# EAGLE library part SI8602AC-B-IS (library toyotune)
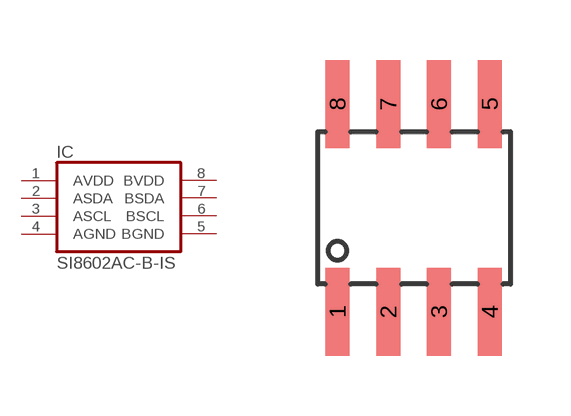
[diagram p35: symbol with the pads of SOIC8; footprint SOIC8]

Designator prefix IC

## SI8602AC-B-IS  [SOIC8]
1  AVDD  pwr
2  ASDA
3  ASCL  in
4  AGND  pwr
5  BGND  pwr
6  BSCL  out
7  BSDA
8  BVDD  pwr

## Footprint SOIC8 (pad centres in mm)
Small Outline IC
smd 0.6 x 2.2: 1 -1.905,-2.6; 2 -0.635,-2.6; 3 0.635,-2.6; 4 1.905,-2.6; 5 1.905,2.6; 6 0.635,2.6; 7 -0.635,2.6; 8 -1.905,2.6